# Altium footprint library Connector_Molex.PcbLib: 815 footprints (part 10 of 51)
Each footprint in its own frame and in the unit in brackets; x right, y up, seen from the top. Pads: shape width x height; smd on the part's side, far side on the other; paste and mask are expansions set on the pad; w line width, h text height; cw(c..) or ccw(c..) is an arc to the next point about the centre after c.
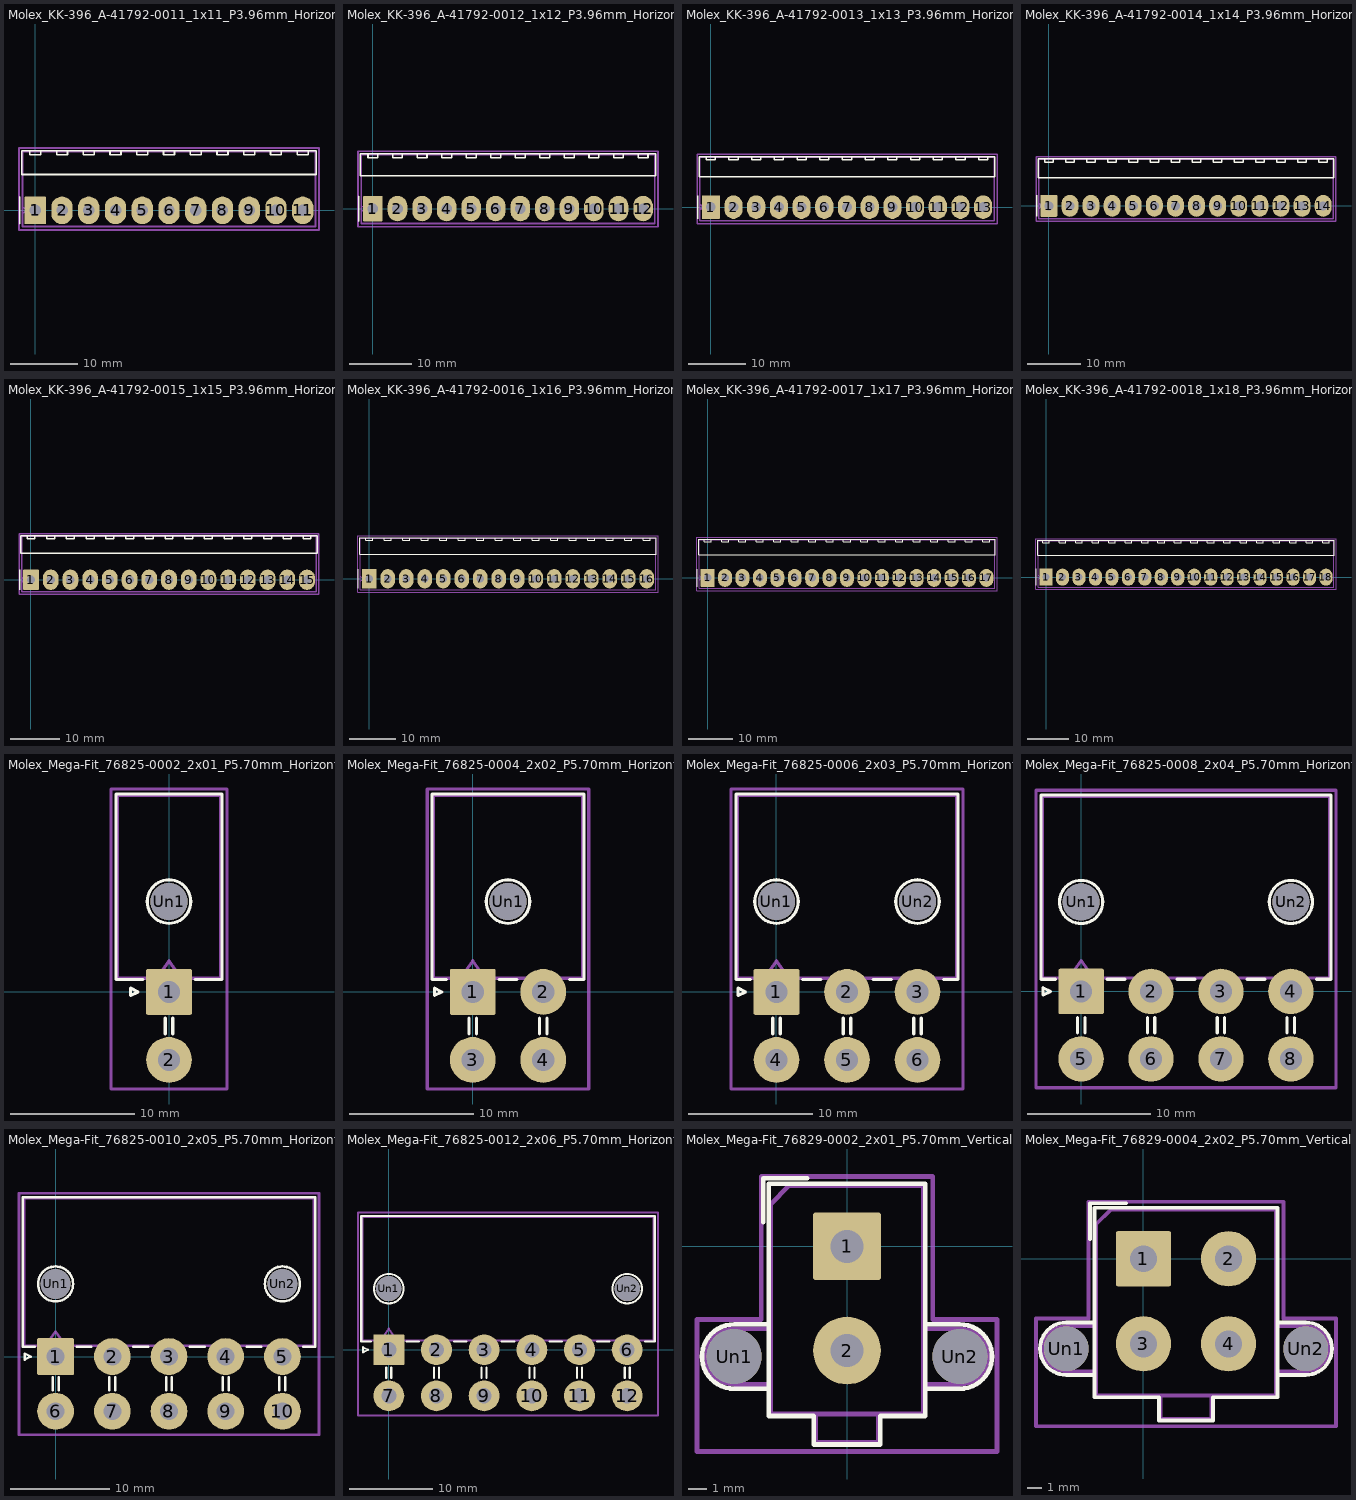
[diagram p9: the footprints below, top view; thin cyan lines are the x and y axes]

## Molex_KK-396_A-41792-0011_1x11_P3.96mm_Horizontal [mm]
pads (11):
  rrect8% 3.16x4.1 hole 1.7: 1(0,0)
  rrect100% 3.16x4.1 hole 1.7: 2(3.96,0) 3(7.92,0) 4(11.88,0) 5(15.84,0) 6(19.8,0) 7(23.76,0) 8(27.72,0) 9(31.68,0) 10(35.64,0) 11(39.6,0)
F.SilkS:
  lines w0.254: -2.305,-2 -2.305,2 ; -0.8,8.82 -0.8,8.22 0.8,8.22 0.8,8.82 ; 3.16,8.82 3.16,8.22 4.76,8.22 4.76,8.82 ; 7.12,8.82 7.12,8.22 8.72,8.22 8.72,8.82 ; 11.08,8.82 11.08,8.22 12.68,8.22 12.68,8.82 ; 15.04,8.82 15.04,8.22 16.64,8.22 16.64,8.82 ; 19,8.82 19,8.22 20.6,8.22 20.6,8.82 ; 22.96,8.82 22.96,8.22 24.56,8.22 24.56,8.82 ; 26.92,8.82 26.92,8.22 28.52,8.22 28.52,8.82 ; 30.88,8.82 30.88,8.22 32.48,8.22 32.48,8.82 ; 34.84,8.82 34.84,8.22 36.44,8.22 36.44,8.82 ; 38.8,8.82 38.8,8.22 40.4,8.22 40.4,8.82 ; -2.015,5.3 41.615,5.3 41.615,8.82 -2.015,8.82 -2.015,5.3
Top Assembly:
  lines w0.254: -1.905,-0.5 -1.198,0 -1.905,0.5 ; -1.905,-2.4 41.505,-2.4 41.505,8.71 -1.905,8.71 -1.905,-2.4
  text "'.Designator'" at 15.753,7.17 h1
Top Courtyard:
  lines w0.254: -2.41,-2.9 42.01,-2.9 42.01,9.22 -2.41,9.22 -2.41,-2.9
Top Designator:
  text ".Designator" at 12.182,2.652 h1.52

## Molex_KK-396_A-41792-0012_1x12_P3.96mm_Horizontal [mm]
pads (12):
  rrect8% 3.16x4.1 hole 1.7: 1(0,0)
  rrect100% 3.16x4.1 hole 1.7: 2(3.96,0) 3(7.92,0) 4(11.88,0) 5(15.84,0) 6(19.8,0) 7(23.76,0) 8(27.72,0) 9(31.68,0) 10(35.64,0) 11(39.6,0) 12(43.56,0)
F.SilkS:
  lines w0.254: -2.305,-2 -2.305,2 ; -0.8,8.82 -0.8,8.22 0.8,8.22 0.8,8.82 ; 3.16,8.82 3.16,8.22 4.76,8.22 4.76,8.82 ; 7.12,8.82 7.12,8.22 8.72,8.22 8.72,8.82 ; 11.08,8.82 11.08,8.22 12.68,8.22 12.68,8.82 ; 15.04,8.82 15.04,8.22 16.64,8.22 16.64,8.82 ; 19,8.82 19,8.22 20.6,8.22 20.6,8.82 ; 22.96,8.82 22.96,8.22 24.56,8.22 24.56,8.82 ; 26.92,8.82 26.92,8.22 28.52,8.22 28.52,8.82 ; 30.88,8.82 30.88,8.22 32.48,8.22 32.48,8.82 ; 34.84,8.82 34.84,8.22 36.44,8.22 36.44,8.82 ; 38.8,8.82 38.8,8.22 40.4,8.22 40.4,8.82 ; 42.76,8.82 42.76,8.22 44.36,8.22 44.36,8.82 ; -2.015,5.3 45.575,5.3 45.575,8.82 -2.015,8.82 -2.015,5.3
Top Assembly:
  lines w0.254: -1.905,-0.5 -1.198,0 -1.905,0.5 ; -1.905,-2.4 45.465,-2.4 45.465,8.71 -1.905,8.71 -1.905,-2.4
  text "'.Designator'" at 17.733,7.17 h1
Top Courtyard:
  lines w0.254: -2.41,-2.9 45.97,-2.9 45.97,9.22 -2.41,9.22 -2.41,-2.9
Top Designator:
  text ".Designator" at 14.162,2.652 h1.52

## Molex_KK-396_A-41792-0013_1x13_P3.96mm_Horizontal [mm]
pads (13):
  rrect8% 3.16x4.1 hole 1.7: 1(0,0)
  rrect100% 3.16x4.1 hole 1.7: 2(3.96,0) 3(7.92,0) 4(11.88,0) 5(15.84,0) 6(19.8,0) 7(23.76,0) 8(27.72,0) 9(31.68,0) 10(35.64,0) 11(39.6,0) 12(43.56,0) 13(47.52,0)
F.SilkS:
  lines w0.254: -2.305,-2 -2.305,2 ; -0.8,8.82 -0.8,8.22 0.8,8.22 0.8,8.82 ; 3.16,8.82 3.16,8.22 4.76,8.22 4.76,8.82 ; 7.12,8.82 7.12,8.22 8.72,8.22 8.72,8.82 ; 11.08,8.82 11.08,8.22 12.68,8.22 12.68,8.82 ; 15.04,8.82 15.04,8.22 16.64,8.22 16.64,8.82 ; 19,8.82 19,8.22 20.6,8.22 20.6,8.82 ; 22.96,8.82 22.96,8.22 24.56,8.22 24.56,8.82 ; 26.92,8.82 26.92,8.22 28.52,8.22 28.52,8.82 ; 30.88,8.82 30.88,8.22 32.48,8.22 32.48,8.82 ; 34.84,8.82 34.84,8.22 36.44,8.22 36.44,8.82 ; 38.8,8.82 38.8,8.22 40.4,8.22 40.4,8.82 ; 42.76,8.82 42.76,8.22 44.36,8.22 44.36,8.82 ; 46.72,8.82 46.72,8.22 48.32,8.22 48.32,8.82 ; -2.015,5.3 49.535,5.3 49.535,8.82 -2.015,8.82 -2.015,5.3
Top Assembly:
  lines w0.254: -1.905,-0.5 -1.198,0 -1.905,0.5 ; -1.905,-2.4 49.425,-2.4 49.425,8.71 -1.905,8.71 -1.905,-2.4
  text "'.Designator'" at 19.713,7.17 h1
Top Courtyard:
  lines w0.254: -2.41,-2.9 49.93,-2.9 49.93,9.22 -2.41,9.22 -2.41,-2.9
Top Designator:
  text ".Designator" at 16.142,2.652 h1.52

## Molex_KK-396_A-41792-0014_1x14_P3.96mm_Horizontal [mm]
pads (14):
  rrect8% 3.16x4.1 hole 1.7: 1(0,0)
  rrect100% 3.16x4.1 hole 1.7: 2(3.96,0) 3(7.92,0) 4(11.88,0) 5(15.84,0) 6(19.8,0) 7(23.76,0) 8(27.72,0) 9(31.68,0) 10(35.64,0) 11(39.6,0) 12(43.56,0) 13(47.52,0) 14(51.48,0)
F.SilkS:
  lines w0.254: -2.305,-2 -2.305,2 ; -0.8,8.82 -0.8,8.22 0.8,8.22 0.8,8.82 ; 3.16,8.82 3.16,8.22 4.76,8.22 4.76,8.82 ; 7.12,8.82 7.12,8.22 8.72,8.22 8.72,8.82 ; 11.08,8.82 11.08,8.22 12.68,8.22 12.68,8.82 ; 15.04,8.82 15.04,8.22 16.64,8.22 16.64,8.82 ; 19,8.82 19,8.22 20.6,8.22 20.6,8.82 ; 22.96,8.82 22.96,8.22 24.56,8.22 24.56,8.82 ; 26.92,8.82 26.92,8.22 28.52,8.22 28.52,8.82 ; 30.88,8.82 30.88,8.22 32.48,8.22 32.48,8.82 ; 34.84,8.82 34.84,8.22 36.44,8.22 36.44,8.82 ; 38.8,8.82 38.8,8.22 40.4,8.22 40.4,8.82 ; 42.76,8.82 42.76,8.22 44.36,8.22 44.36,8.82 ; 46.72,8.82 46.72,8.22 48.32,8.22 48.32,8.82 ; 50.68,8.82 50.68,8.22 52.28,8.22 52.28,8.82 ; -2.015,5.3 53.495,5.3 53.495,8.82 -2.015,8.82 -2.015,5.3
Top Assembly:
  lines w0.254: -1.905,-0.5 -1.198,0 -1.905,0.5 ; -1.905,-2.4 53.385,-2.4 53.385,8.71 -1.905,8.71 -1.905,-2.4
  text "'.Designator'" at 21.693,7.17 h1
Top Courtyard:
  lines w0.254: -2.41,-2.9 53.89,-2.9 53.89,9.22 -2.41,9.22 -2.41,-2.9
Top Designator:
  text ".Designator" at 18.122,2.652 h1.52

## Molex_KK-396_A-41792-0015_1x15_P3.96mm_Horizontal [mm]
pads (15):
  rrect8% 3.16x4.1 hole 1.7: 1(0,0)
  rrect100% 3.16x4.1 hole 1.7: 2(3.96,0) 3(7.92,0) 4(11.88,0) 5(15.84,0) 6(19.8,0) 7(23.76,0) 8(27.72,0) 9(31.68,0) 10(35.64,0) 11(39.6,0) 12(43.56,0) 13(47.52,0) 14(51.48,0) 15(55.44,0)
F.SilkS:
  lines w0.254: -2.305,-2 -2.305,2 ; -0.8,8.82 -0.8,8.22 0.8,8.22 0.8,8.82 ; 3.16,8.82 3.16,8.22 4.76,8.22 4.76,8.82 ; 7.12,8.82 7.12,8.22 8.72,8.22 8.72,8.82 ; 11.08,8.82 11.08,8.22 12.68,8.22 12.68,8.82 ; 15.04,8.82 15.04,8.22 16.64,8.22 16.64,8.82 ; 19,8.82 19,8.22 20.6,8.22 20.6,8.82 ; 22.96,8.82 22.96,8.22 24.56,8.22 24.56,8.82 ; 26.92,8.82 26.92,8.22 28.52,8.22 28.52,8.82 ; 30.88,8.82 30.88,8.22 32.48,8.22 32.48,8.82 ; 34.84,8.82 34.84,8.22 36.44,8.22 36.44,8.82 ; 38.8,8.82 38.8,8.22 40.4,8.22 40.4,8.82 ; 42.76,8.82 42.76,8.22 44.36,8.22 44.36,8.82 ; 46.72,8.82 46.72,8.22 48.32,8.22 48.32,8.82 ; 50.68,8.82 50.68,8.22 52.28,8.22 52.28,8.82 ; 54.64,8.82 54.64,8.22 56.24,8.22 56.24,8.82 ; -2.015,5.3 57.455,5.3 57.455,8.82 -2.015,8.82 -2.015,5.3
Top Assembly:
  lines w0.254: -1.905,-0.5 -1.198,0 -1.905,0.5 ; -1.905,-2.4 57.345,-2.4 57.345,8.71 -1.905,8.71 -1.905,-2.4
  text "'.Designator'" at 23.673,7.17 h1
Top Courtyard:
  lines w0.254: -2.41,-2.9 57.85,-2.9 57.85,9.22 -2.41,9.22 -2.41,-2.9
Top Designator:
  text ".Designator" at 20.102,2.652 h1.52

## Molex_KK-396_A-41792-0016_1x16_P3.96mm_Horizontal [mm]
pads (16):
  rrect8% 3.16x4.1 hole 1.7: 1(0,0)
  rrect100% 3.16x4.1 hole 1.7: 2(3.96,0) 3(7.92,0) 4(11.88,0) 5(15.84,0) 6(19.8,0) 7(23.76,0) 8(27.72,0) 9(31.68,0) 10(35.64,0) 11(39.6,0) 12(43.56,0) 13(47.52,0) 14(51.48,0) 15(55.44,0) 16(59.4,0)
F.SilkS:
  lines w0.254: -2.305,-2 -2.305,2 ; -0.8,8.82 -0.8,8.22 0.8,8.22 0.8,8.82 ; 3.16,8.82 3.16,8.22 4.76,8.22 4.76,8.82 ; 7.12,8.82 7.12,8.22 8.72,8.22 8.72,8.82 ; 11.08,8.82 11.08,8.22 12.68,8.22 12.68,8.82 ; 15.04,8.82 15.04,8.22 16.64,8.22 16.64,8.82 ; 19,8.82 19,8.22 20.6,8.22 20.6,8.82 ; 22.96,8.82 22.96,8.22 24.56,8.22 24.56,8.82 ; 26.92,8.82 26.92,8.22 28.52,8.22 28.52,8.82 ; 30.88,8.82 30.88,8.22 32.48,8.22 32.48,8.82 ; 34.84,8.82 34.84,8.22 36.44,8.22 36.44,8.82 ; 38.8,8.82 38.8,8.22 40.4,8.22 40.4,8.82 ; 42.76,8.82 42.76,8.22 44.36,8.22 44.36,8.82 ; 46.72,8.82 46.72,8.22 48.32,8.22 48.32,8.82 ; 50.68,8.82 50.68,8.22 52.28,8.22 52.28,8.82 ; 54.64,8.82 54.64,8.22 56.24,8.22 56.24,8.82 ; 58.6,8.82 58.6,8.22 60.2,8.22 60.2,8.82 ; -2.015,5.3 61.415,5.3 61.415,8.82 -2.015,8.82 -2.015,5.3
Top Assembly:
  lines w0.254: -1.905,-0.5 -1.198,0 -1.905,0.5 ; -1.905,-2.4 61.305,-2.4 61.305,8.71 -1.905,8.71 -1.905,-2.4
  text "'.Designator'" at 25.653,7.17 h1
Top Courtyard:
  lines w0.254: -2.41,-2.9 61.81,-2.9 61.81,9.22 -2.41,9.22 -2.41,-2.9
Top Designator:
  text ".Designator" at 22.082,2.652 h1.52

## Molex_KK-396_A-41792-0017_1x17_P3.96mm_Horizontal [mm]
pads (17):
  rrect8% 3.16x4.1 hole 1.7: 1(0,0)
  rrect100% 3.16x4.1 hole 1.7: 2(3.96,0) 3(7.92,0) 4(11.88,0) 5(15.84,0) 6(19.8,0) 7(23.76,0) 8(27.72,0) 9(31.68,0) 10(35.64,0) 11(39.6,0) 12(43.56,0) 13(47.52,0) 14(51.48,0) 15(55.44,0) 16(59.4,0) 17(63.36,0)
F.SilkS:
  lines w0.254: -2.305,-2 -2.305,2 ; -0.8,8.82 -0.8,8.22 0.8,8.22 0.8,8.82 ; 3.16,8.82 3.16,8.22 4.76,8.22 4.76,8.82 ; 7.12,8.82 7.12,8.22 8.72,8.22 8.72,8.82 ; 11.08,8.82 11.08,8.22 12.68,8.22 12.68,8.82 ; 15.04,8.82 15.04,8.22 16.64,8.22 16.64,8.82 ; 19,8.82 19,8.22 20.6,8.22 20.6,8.82 ; 22.96,8.82 22.96,8.22 24.56,8.22 24.56,8.82 ; 26.92,8.82 26.92,8.22 28.52,8.22 28.52,8.82 ; 30.88,8.82 30.88,8.22 32.48,8.22 32.48,8.82 ; 34.84,8.82 34.84,8.22 36.44,8.22 36.44,8.82 ; 38.8,8.82 38.8,8.22 40.4,8.22 40.4,8.82 ; 42.76,8.82 42.76,8.22 44.36,8.22 44.36,8.82 ; 46.72,8.82 46.72,8.22 48.32,8.22 48.32,8.82 ; 50.68,8.82 50.68,8.22 52.28,8.22 52.28,8.82 ; 54.64,8.82 54.64,8.22 56.24,8.22 56.24,8.82 ; 58.6,8.82 58.6,8.22 60.2,8.22 60.2,8.82 ; 62.56,8.82 62.56,8.22 64.16,8.22 64.16,8.82 ; -2.015,5.3 65.375,5.3 65.375,8.82 -2.015,8.82 -2.015,5.3
Top Assembly:
  lines w0.254: -1.905,-0.5 -1.198,0 -1.905,0.5 ; -1.905,-2.4 65.265,-2.4 65.265,8.71 -1.905,8.71 -1.905,-2.4
  text "'.Designator'" at 27.633,7.17 h1
Top Courtyard:
  lines w0.254: -2.41,-2.9 65.77,-2.9 65.77,9.22 -2.41,9.22 -2.41,-2.9
Top Designator:
  text ".Designator" at 24.062,2.652 h1.52

## Molex_KK-396_A-41792-0018_1x18_P3.96mm_Horizontal [mm]
pads (18):
  rrect8% 3.16x4.1 hole 1.7: 1(0,0)
  rrect100% 3.16x4.1 hole 1.7: 2(3.96,0) 3(7.92,0) 4(11.88,0) 5(15.84,0) 6(19.8,0) 7(23.76,0) 8(27.72,0) 9(31.68,0) 10(35.64,0) 11(39.6,0) 12(43.56,0) 13(47.52,0) 14(51.48,0) 15(55.44,0) 16(59.4,0) 17(63.36,0) 18(67.32,0)
F.SilkS:
  lines w0.254: -2.305,-2 -2.305,2 ; -0.8,8.82 -0.8,8.22 0.8,8.22 0.8,8.82 ; 3.16,8.82 3.16,8.22 4.76,8.22 4.76,8.82 ; 7.12,8.82 7.12,8.22 8.72,8.22 8.72,8.82 ; 11.08,8.82 11.08,8.22 12.68,8.22 12.68,8.82 ; 15.04,8.82 15.04,8.22 16.64,8.22 16.64,8.82 ; 19,8.82 19,8.22 20.6,8.22 20.6,8.82 ; 22.96,8.82 22.96,8.22 24.56,8.22 24.56,8.82 ; 26.92,8.82 26.92,8.22 28.52,8.22 28.52,8.82 ; 30.88,8.82 30.88,8.22 32.48,8.22 32.48,8.82 ; 34.84,8.82 34.84,8.22 36.44,8.22 36.44,8.82 ; 38.8,8.82 38.8,8.22 40.4,8.22 40.4,8.82 ; 42.76,8.82 42.76,8.22 44.36,8.22 44.36,8.82 ; 46.72,8.82 46.72,8.22 48.32,8.22 48.32,8.82 ; 50.68,8.82 50.68,8.22 52.28,8.22 52.28,8.82 ; 54.64,8.82 54.64,8.22 56.24,8.22 56.24,8.82 ; 58.6,8.82 58.6,8.22 60.2,8.22 60.2,8.82 ; 62.56,8.82 62.56,8.22 64.16,8.22 64.16,8.82 ; 66.52,8.82 66.52,8.22 68.12,8.22 68.12,8.82 ; -2.015,5.3 69.335,5.3 69.335,8.82 -2.015,8.82 -2.015,5.3
Top Assembly:
  lines w0.254: -1.905,-0.5 -1.198,0 -1.905,0.5 ; -1.905,-2.4 69.225,-2.4 69.225,8.71 -1.905,8.71 -1.905,-2.4
  text "'.Designator'" at 29.613,7.17 h1
Top Courtyard:
  lines w0.254: -2.41,-2.9 69.73,-2.9 69.73,9.22 -2.41,9.22 -2.41,-2.9
Top Designator:
  text ".Designator" at 26.042,2.652 h1.52

## Molex_Mega-Fit_76825-0002_2x01_P5.70mm_Horizontal [mm]
pads (3):
  rrect7% 3.7x3.7 hole 1.8: 1(0,0)
  round 3.7 hole 1.8: 2(0,-5.5)
  round 3 hole 3: Un1(0,7.3)
F.SilkS:
  circle w0.254: c0,7.3 r1.76
  lines w0.254: -2.11,0.99 -4.285,0.99 -4.285,16.01 0,16.01 4.285,16.01 4.285,0.99 2.11,0.99 ; -0.3,-3.39 -0.3,-2.11 ; 0.3,-3.39 0.3,-2.11 ; -3.1,-0.3 -2.5,0 -3.1,0.3 -3.1,-0.3
Top Assembly:
  lines w0.254: -1,1.1 0,2.514 1,1.1 ; -4.175,1.1 4.175,1.1 4.175,15.9 -4.175,15.9 -4.175,1.1
  text "'.Designator'" at -4.047,14.36 h1
Top Courtyard:
  lines w0.254: -4.68,-7.85 4.68,-7.85 4.68,16.4 -4.68,16.4 -4.68,-7.85
Top Designator:
  text ".Designator" at -7.618,3.767 h1.52

## Molex_Mega-Fit_76825-0004_2x02_P5.70mm_Horizontal [mm]
pads (5):
  rrect7% 3.7x3.7 hole 1.8: 1(0,0)
  round 3.7 hole 1.8: 2(5.7,0) 3(0,-5.5) 4(5.7,-5.5)
  round 3 hole 3: Un1(2.85,7.3)
F.SilkS:
  circle w0.254: c2.85,7.3 r1.76
  lines w0.254: -2.11,0.99 -3.285,0.99 -3.285,16.01 2.85,16.01 8.985,16.01 8.985,0.99 7.81,0.99 ; -0.3,-3.39 -0.3,-2.11 ; 0.3,-3.39 0.3,-2.11 ; 2.11,0.99 3.59,0.99 ; 5.4,-3.39 5.4,-2.11 ; 6,-3.39 6,-2.11 ; -3.1,-0.3 -3.1,0.3 -2.5,0 -3.1,-0.3
Top Assembly:
  lines w0.254: -1,1.1 0,2.514 1,1.1 ; -3.175,1.1 -3.175,15.9 8.875,15.9 8.875,1.1 -3.175,1.1
  text "'.Designator'" at -1.197,14.36 h1
Top Courtyard:
  lines w0.254: -3.68,-7.85 -3.68,16.4 9.38,16.4 9.38,-7.85 -3.68,-7.85
Top Designator:
  text ".Designator" at -4.768,3.767 h1.52

## Molex_Mega-Fit_76825-0006_2x03_P5.70mm_Horizontal [mm]
pads (8):
  rrect7% 3.7x3.7 hole 1.8: 1(0,0)
  round 3.7 hole 1.8: 2(5.7,0) 3(11.4,0) 4(0,-5.5) 5(5.7,-5.5) 6(11.4,-5.5)
  round 3 hole 3: Un1(0,7.3) Un2(11.4,7.3)
F.SilkS:
  circle w0.254: c0,7.3 r1.76
  circle w0.254: c11.4,7.3 r1.76
  lines w0.254: -2.11,0.99 -3.285,0.99 -3.285,16.01 5.7,16.01 14.685,16.01 14.685,0.99 13.51,0.99 ; -0.3,-3.39 -0.3,-2.11 ; 0.3,-3.39 0.3,-2.11 ; 2.11,0.99 3.59,0.99 ; 5.4,-3.39 5.4,-2.11 ; 6,-3.39 6,-2.11 ; 7.81,0.99 9.29,0.99 ; 11.1,-3.39 11.1,-2.11 ; 11.7,-3.39 11.7,-2.11 ; -3.1,-0.3 -3.1,0.3 -2.5,0 -3.1,-0.3
Top Assembly:
  lines w0.254: -1,1.1 0,2.514 1,1.1 ; -3.175,1.1 -3.175,15.9 14.575,15.9 14.575,1.1 -3.175,1.1
  text "'.Designator'" at 1.653,14.36 h1
Top Courtyard:
  lines w0.254: -3.68,-7.85 -3.68,16.4 15.08,16.4 15.08,-7.85 -3.68,-7.85
Top Designator:
  text ".Designator" at -1.918,3.767 h1.52

## Molex_Mega-Fit_76825-0008_2x04_P5.70mm_Horizontal [mm]
pads (10):
  rrect7% 3.7x3.7 hole 1.8: 1(0,0)
  round 3.7 hole 1.8: 2(5.7,0) 3(11.4,0) 4(17.1,0) 5(0,-5.5) 6(5.7,-5.5) 7(11.4,-5.5) 8(17.1,-5.5)
  round 3 hole 3: Un1(0,7.3) Un2(17.1,7.3)
F.SilkS:
  circle w0.254: c17.1,7.3 r1.76
  circle w0.254: c0,7.3 r1.76
  lines w0.254: -2.11,0.99 -3.285,0.99 -3.285,16.01 8.55,16.01 20.385,16.01 20.385,0.99 19.21,0.99 ; -0.3,-3.39 -0.3,-2.11 ; 0.3,-3.39 0.3,-2.11 ; 2.11,0.99 3.59,0.99 ; 5.4,-3.39 5.4,-2.11 ; 6,-3.39 6,-2.11 ; 7.81,0.99 9.29,0.99 ; 11.1,-3.39 11.1,-2.11 ; 11.7,-3.39 11.7,-2.11 ; 13.51,0.99 14.99,0.99 ; 16.8,-3.39 16.8,-2.11 ; 17.4,-3.39 17.4,-2.11 ; -3.1,-0.3 -2.5,0 -3.1,0.3 -3.1,-0.3
Top Assembly:
  lines w0.254: -1,1.1 0,2.514 1,1.1 ; -3.175,1.1 20.275,1.1 20.275,15.9 -3.175,15.9 -3.175,1.1
  text "'.Designator'" at 4.503,14.36 h1
Top Courtyard:
  lines w0.254: -3.68,-7.85 20.78,-7.85 20.78,16.4 -3.68,16.4 -3.68,-7.85
Top Designator:
  text ".Designator" at 0.932,3.767 h1.52

## Molex_Mega-Fit_76825-0010_2x05_P5.70mm_Horizontal [mm]
pads (12):
  rrect7% 3.7x3.7 hole 1.8: 1(0,0)
  round 3.7 hole 1.8: 2(5.7,0) 3(11.4,0) 4(17.1,0) 5(22.8,0) 6(0,-5.5) 7(5.7,-5.5) 8(11.4,-5.5) 9(17.1,-5.5) 10(22.8,-5.5)
  round 3 hole 3: Un1(0,7.3) Un2(22.8,7.3)
F.SilkS:
  circle w0.254: c22.8,7.3 r1.76
  circle w0.254: c0,7.3 r1.76
  lines w0.254: -2.11,0.99 -3.285,0.99 -3.285,16.01 11.4,16.01 26.085,16.01 26.085,0.99 24.91,0.99 ; -0.3,-3.39 -0.3,-2.11 ; 0.3,-3.39 0.3,-2.11 ; 2.11,0.99 3.59,0.99 ; 5.4,-3.39 5.4,-2.11 ; 6,-3.39 6,-2.11 ; 7.81,0.99 9.29,0.99 ; 11.1,-3.39 11.1,-2.11 ; 11.7,-3.39 11.7,-2.11 ; 13.51,0.99 14.99,0.99 ; 16.8,-3.39 16.8,-2.11 ; 17.4,-3.39 17.4,-2.11 ; 19.21,0.99 20.69,0.99 ; 22.5,-3.39 22.5,-2.11 ; 23.1,-3.39 23.1,-2.11 ; -3.1,-0.3 -2.5,0 -3.1,0.3 -3.1,-0.3
Top Assembly:
  lines w0.254: -1,1.1 0,2.514 1,1.1 ; -3.175,1.1 25.975,1.1 25.975,15.9 -3.175,15.9 -3.175,1.1
  text "'.Designator'" at 7.353,14.36 h1
Top Courtyard:
  lines w0.254: -3.68,-7.85 26.48,-7.85 26.48,16.4 -3.68,16.4 -3.68,-7.85
Top Designator:
  text ".Designator" at 3.782,3.767 h1.52

## Molex_Mega-Fit_76825-0012_2x06_P5.70mm_Horizontal [mm]
pads (14):
  rrect7% 3.7x3.7 hole 1.8: 1(0,0)
  round 3.7 hole 1.8: 2(5.7,0) 3(11.4,0) 4(17.1,0) 5(22.8,0) 6(28.5,0) 7(0,-5.5) 8(5.7,-5.5) 9(11.4,-5.5) 10(17.1,-5.5) 11(22.8,-5.5) 12(28.5,-5.5)
  round 3 hole 3: Un1(0,7.3) Un2(28.5,7.3)
F.SilkS:
  circle w0.254: c28.5,7.3 r1.76
  circle w0.254: c0,7.3 r1.76
  lines w0.254: -2.11,0.99 -3.285,0.99 -3.285,16.01 14.25,16.01 31.785,16.01 31.785,0.99 30.61,0.99 ; -0.3,-3.39 -0.3,-2.11 ; 0.3,-3.39 0.3,-2.11 ; 2.11,0.99 3.59,0.99 ; 5.4,-3.39 5.4,-2.11 ; 6,-3.39 6,-2.11 ; 7.81,0.99 9.29,0.99 ; 11.1,-3.39 11.1,-2.11 ; 11.7,-3.39 11.7,-2.11 ; 13.51,0.99 14.99,0.99 ; 16.8,-3.39 16.8,-2.11 ; 17.4,-3.39 17.4,-2.11 ; 19.21,0.99 20.69,0.99 ; 22.5,-3.39 22.5,-2.11 ; 23.1,-3.39 23.1,-2.11 ; 24.91,0.99 26.39,0.99 ; 28.2,-3.39 28.2,-2.11 ; 28.8,-3.39 28.8,-2.11 ; -3.1,-0.3 -2.5,0 -3.1,0.3 -3.1,-0.3
Top Assembly:
  lines w0.254: -1,1.1 0,2.514 1,1.1 ; -3.175,1.1 31.675,1.1 31.675,15.9 -3.175,15.9 -3.175,1.1
  text "'.Designator'" at 10.203,14.36 h1
Top Courtyard:
  lines w0.254: -3.68,-7.85 32.18,-7.85 32.18,16.4 -3.68,16.4 -3.68,-7.85
Top Designator:
  text ".Designator" at 6.632,3.767 h1.52

## Molex_Mega-Fit_76829-0002_2x01_P5.70mm_Vertical [mm]
pads (4):
  rrect7% 3.7x3.7 hole 1.8: 1(0,0)
  round 3.7 hole 1.8: 2(0,-5.7)
  round 3 hole 3: Un1(-6.17,-6.025) Un2(6.17,-6.025)
F.SilkS:
  lines w0.254: -4.585,1.31 -4.585,3.72 -2.175,3.72 ; -4.285,-7.785 -6.17,-7.785 cw(c-6.17,-6.025) -6.17,-4.265 -4.285,-4.265 ; 4.285,-7.785 6.17,-7.785 ccw(c6.17,-6.025) 6.17,-4.265 4.285,-4.265 ; -4.285,-9.28 -1.81,-9.28 -1.81,-10.83 0,-10.83 1.81,-10.83 1.81,-9.28 4.285,-9.28 4.285,3.42 0,3.42 -4.285,3.42 -4.285,-9.28
Top Assembly:
  lines w0.254: -4.175,-7.55 -6.17,-7.55 cw(c-6.17,-6.025) -6.17,-4.5 -4.175,-4.5 ; -1.7,-9.17 -1.7,-10.72 1.7,-10.72 1.7,-9.17 ; 4.175,-7.55 6.17,-7.55 ccw(c6.17,-6.025) 6.17,-4.5 4.175,-4.5 ; -4.175,-9.17 4.175,-9.17 4.175,3.31 -3.175,3.31 -4.175,2.31 -4.175,-9.17
  text "'.Designator'" at -4.047,1.77 h1
Top Courtyard:
  lines w0.254: -8.2,-11.22 8.2,-11.22 8.2,-4 4.68,-4 4.68,3.82 -4.68,3.82 -4.68,-4 -8.2,-4 -8.2,-11.22
Top Designator:
  text ".Designator" at -7.618,-4.208 h1.52

## Molex_Mega-Fit_76829-0004_2x02_P5.70mm_Vertical [mm]
pads (6):
  rrect7% 3.7x3.7 hole 1.8: 1(0,0)
  round 3.7 hole 1.8: 2(5.7,0) 3(0,-5.7) 4(5.7,-5.7)
  round 3 hole 3: Un1(-5.17,-6.025) Un2(10.87,-6.025)
F.SilkS:
  lines w0.254: -3.585,1.31 -3.585,3.72 -1.175,3.72 ; -3.285,-7.785 -5.17,-7.785 cw(c-5.17,-6.025) -5.17,-4.265 -3.285,-4.265 ; 8.985,-7.785 10.87,-7.785 ccw(c10.87,-6.025) 10.87,-4.265 8.985,-4.265 ; -3.285,-9.28 1.04,-9.28 1.04,-10.83 2.85,-10.83 4.66,-10.83 4.66,-9.28 8.985,-9.28 8.985,3.42 2.85,3.42 -3.285,3.42 -3.285,-9.28
Top Assembly:
  lines w0.254: -3.175,-7.55 -5.17,-7.55 cw(c-5.17,-6.025) -5.17,-4.5 -3.175,-4.5 ; 1.15,-9.17 1.15,-10.72 4.55,-10.72 4.55,-9.17 ; 8.875,-7.55 10.87,-7.55 ccw(c10.87,-6.025) 10.87,-4.5 8.875,-4.5 ; -3.175,-9.17 8.875,-9.17 8.875,3.31 -2.175,3.31 -3.175,2.31 -3.175,-9.17
  text "'.Designator'" at -1.197,1.77 h1
Top Courtyard:
  lines w0.254: -7.2,-11.22 12.9,-11.22 12.9,-4 9.38,-4 9.38,3.82 -3.68,3.82 -3.68,-4 -7.2,-4 -7.2,-11.22
Top Designator:
  text ".Designator" at -4.768,-4.208 h1.52